# EAGLE library part ND120-SM02 (library superior)
Differential Pressure Sensor
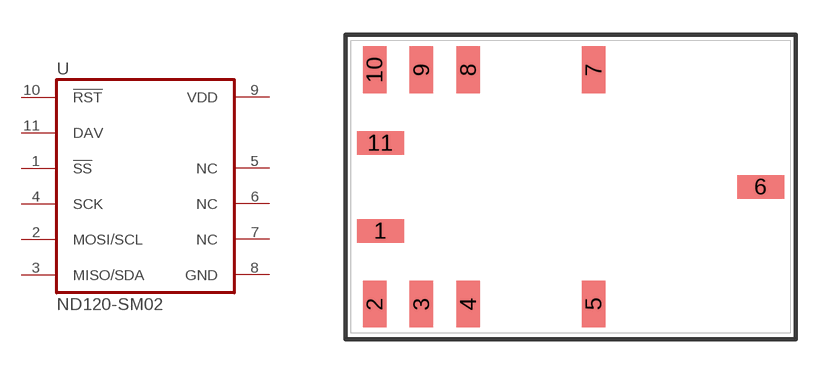
[diagram p0: symbol with the pads of SM02; footprint SM02]

Designator prefix U

## ND120-SM02  [SM02]
1  !SS!  in
2  MOSI/SCL  in
3  MISO/SDA
4  SCK  in
5  NC  in
6  NC  in
7  NC  in
8  GND  in
9  VDD  in
10  !RST!  in
11  DAV  out

## Footprint SM02 (pad centres in mm)
SM02
smd 2.03 x 1.02: 1 -8.255,-1.91; 6 8.25,0; 11 -8.255,1.905
smd 1.02 x 2.03: 2 -8.509,-5.08; 3 -6.477,-5.08; 4 -4.445,-5.08; 5 1,-5.08; 7 1,5.08; 8 -4.445,5.08; 9 -6.477,5.08; 10 -8.509,5.08